# Altium footprint library ECE453_Power-v2.PcbLib: 13 footprints
Each footprint in its own frame and in the unit in brackets; x right, y up, seen from the top. Pads: shape width x height; smd on the part's side, far side on the other; paste and mask are expansions set on the pad; w line width, h text height; cw(c..) or ccw(c..) is an arc to the next point about the centre after c.
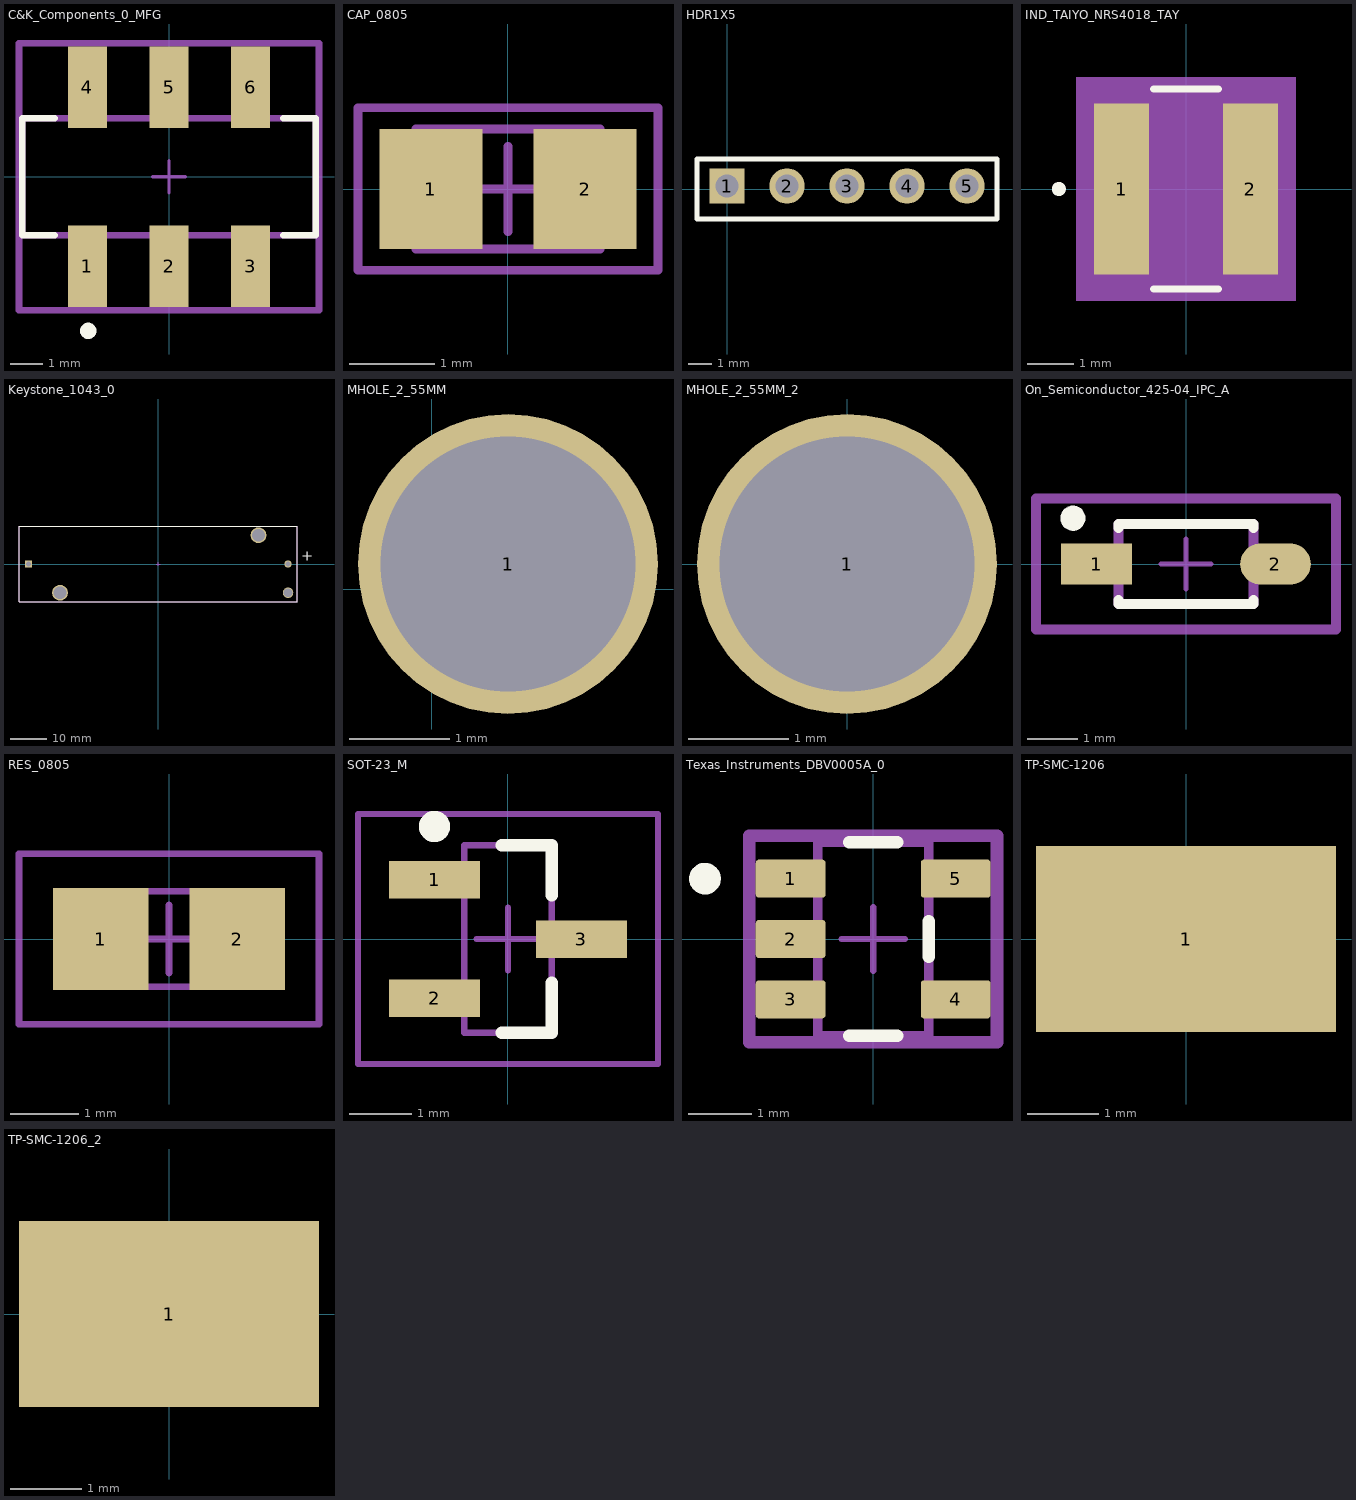
[diagram p0: the footprints below, top view; thin cyan lines are the x and y axes]

## C&K_Components_0_MFG [mm]
pads (6):
  rect 1.2x2.5 smd paste+0 mask+0: 1(-2.5,-2.75) 2(0,-2.75) 3(2.5,-2.75) 4(-2.5,2.75) 5(0,2.75) 6(2.5,2.75)
Top Overlay:
  circle w0.25: c-2.476,-4.725 r0.125
  lines w0.2: -3.5,-1.8 -4.5,-1.8 -4.5,1.8 -3.5,1.8 ; 3.5,-1.8 4.5,-1.8 4.5,1.8 3.5,1.8
Mechanical 10:
  lines w0.2: -4.6,-4.1 -4.6,4.1 4.6,4.1 4.6,-4.1 -4.6,-4.1
Mechanical 12:
  lines w0.2: -4.5,-1.8 -4.5,1.8 4.5,1.8 4.5,-1.8 -4.5,-1.8
Mechanical 15:
  lines w0.1: -0.5,0 0.5,0 ; 0,-0.5 0,0.5
  lines w0.2: -4.6,-4.1 -4.6,4.1 4.6,4.1 4.6,-4.1 -4.6,-4.1
3D body "JS202011SCQN--3DModel-STEP-56544.STEP": height 5.51, standoff 0, extent -4.496,-3.746 4.496,3.747

## CAP_0805 [mm]
pads (2):
  rect 1.2x1.4 smd: 1(-0.9,0) 2(0.9,0)
Mechanical 13:
  lines w0.1: -1.075,-0.7 1.075,-0.7 1.075,0.7 -1.075,0.7 -1.075,-0.7
Mechanical 15:
  lines w0.1: -0.5,0 0.5,0 ; 0,-0.5 0,0.5 ; -1.75,-0.95 1.75,-0.95 1.75,0.95 -1.75,0.95 -1.75,-0.95
3D body: height 0.7, standoff 0, extent -1.075,-0.7 1.075,0.7

## HDR1X5 [mm]
pads (5):
  rect 1.5x1.5 hole 0.991: 1(0,0.127)
  round 1.5 hole 0.991: 2(2.54,0.127) 3(5.08,0.127) 4(7.62,0.127) 5(10.16,0.127)
Top Overlay:
  lines w0.2: 10.16,-1.27 -1.27,-1.27 -1.27,1.27 10.16,1.27
  lines w0.203: 10.16,-1.27 11.43,-1.27 11.43,1.27 10.16,1.27
3D body "PREC005SAAN-RC.STEP": height 8.38, standoff -3.05, extent -1.27,-1.27 11.43,1.27

## IND_TAIYO_NRS4018_TAY [mil]
pads (2):
  rect 47x146 smd paste+0 mask+0: 1(-55,0) 2(55,0)
Top Overlay:
  circle w6: c-108.5,0 r3
  lines w6: -27.58,-85.5 27.58,-85.5 ; -27.58,85.5 27.58,85.5
Mechanical 5:
  region: 93.5,-95.5 -93.5,-95.5 -93.5,95.5 93.5,95.5
Mechanical 13:
  circle w0: c-77.5,0 r3
  lines w1: -80.5,-80.5 -80.5,80.5 80.5,80.5 80.5,-80.5 -80.5,-80.5
Mechanical 15:
  region: -90.5,-83 -90.5,83 -90.5,90.5 90.5,90.5 90.5,83 90.5,-83 90.5,-90.5 -90.5,-90.5
  lines w6: -90.5,-90.5 90.5,-90.5 90.5,-83 90.5,83 90.5,90.5 -90.5,90.5 -90.5,83 -90.5,-83 -90.5,-90.5
3D body: height 10, standoff 0, extent 0,0 10,10
3D body "IND_TAIYO_NRS4018_TAY.step": height 70.98, standoff 0, extent -80.51,-80.59 80.51,80.59

## Keystone_1043_0 [mil]
pads (5):
  rect 79.53x79.53 hole 52 paste-39370.1 mask+0: 1(-1422.5,0)
  round 79.53 hole 52 paste-39370.1 mask+0: 2(1422.5,0)
  round 175 hole 140 unplated paste-39370.1 mask+0: ""(-1076.5,-315) ""(1098.5,315)
  round 115 hole 94 unplated paste-39370.1 mask+0: ""(1422.5,-315)
Top Overlay:
  lines w7.87: -1522,-411.5 -1522,411.5 1522,411.5 1522,-411.5 -1522,-411.5
  text "+" at 1564.96,0 h196.85
Mechanical 10:
  lines w7.87: -1525.94,-415.44 -1525.94,415.44 1525.94,415.44 1525.94,-415.44 -1525.94,-415.44
  text ".Designator" at 0,0 h39.37
Mechanical 12:
  lines w5.91: -1522,-411.5 -1522,411.5 1522,411.5 1522,-411.5 -1522,-411.5
Mechanical 15:
  lines w3.94: -19.68,0 19.68,0 ; 0,-19.68 0,19.68
  lines w7.87: -1525.94,-415.44 -1525.94,415.44 1525.94,415.44 1525.94,-415.44 -1525.94,-415.44
3D body "Batt_Keystone_1043_eec.STEP": height 10, standoff 0, extent -1525.94,-415.44 1525.94,415.44

## MHOLE_2_55MM [mm]
pads (1):
  round 3 / inner round 4.572 / far side round 4.318 hole 2.55: 1(0.762,0.254)

## MHOLE_2_55MM_2 [mm]
pads (1):
  round 3 / inner round 4.572 / far side round 4.318 hole 2.55: 1(0,0)

## On_Semiconductor_425-04_IPC_A [mm]
pads (2):
  rect 1.408x0.822 smd paste+0 mask+0: 1(-1.78,0)
  rrect100% 1.408x0.822 smd paste+0 mask+0: 2(1.78,0)
Top Overlay:
  circle w0.25: c-2.249,0.911 r0.125
  lines w0.2: -1.345,-0.72 -1.345,-0.8 1.345,-0.8 1.345,-0.72 ; -1.345,0.72 -1.345,0.8 1.345,0.8 1.345,0.72
Mechanical 10:
  lines w0.2: -2.984,-1.3 -2.984,1.3 2.984,1.3 2.984,-1.3 -2.984,-1.3
Mechanical 12:
  lines w0.2: -1.345,-0.8 -1.345,0.8 1.345,0.8 1.345,-0.8 -1.345,-0.8
Mechanical 15:
  lines w0.1: -0.5,0 0.5,0 ; 0,-0.5 0,0.5
  lines w0.2: -2.984,-1.3 -2.984,1.3 2.984,1.3 2.984,-1.3 -2.984,-1.3
3D body "Diode_On_Semiconductor_MBR0540T1G_eec.STEP": height 0.25, standoff 0, extent -2.984,-1.3 2.984,1.3

## RES_0805 [mm]
pads (2):
  rect 1.4x1.5 smd: 1(-1,0) 2(1,0)
Mechanical 13:
  lines w0.1: -1.075,-0.7 -1.075,0.7 1.075,0.7 1.075,-0.7 -1.075,-0.7
Mechanical 15:
  lines w0.1: -0.5,0 0.5,0 ; 0,-0.5 0,0.5 ; -2.2,-1.25 -2.2,1.25 2.2,1.25 2.2,-1.25 -2.2,-1.25
3D body: height 0.7, standoff 0, extent -1.075,-0.7 1.075,0.7

## SOT-23_M [mm]
pads (3):
  rect 1.45x0.6 smd: 1(-1.175,0.95) 2(-1.175,-0.95) 3(1.175,0)
Top Overlay:
  circle w0.25: c-1.175,1.8 r0.125
  lines w0.2: -0.1,-1.5 0.7,-1.5 0.7,-0.7 ; -0.1,1.5 0.7,1.5 0.7,0.7
Mechanical 13:
  lines w0.1: -0.7,-1.5 -0.7,1.5 0.7,1.5 0.7,-1.5 -0.7,-1.5
Mechanical 15:
  lines w0.1: -0.5,0 0.5,0 ; 0,-0.5 0,0.5 ; -2.4,-2 -2.4,2 2.4,2 2.4,-2 -2.4,-2
3D body: height 1.1, standoff 0, extent -0.7,-1.5 0.7,1.5

## Texas_Instruments_DBV0005A_0 [mm]
pads (5):
  rrect17% 1.1x0.6 smd paste+0 mask+0: 1(-1.3,0.95) 2(-1.3,0) 3(-1.3,-0.95) 4(1.3,-0.95) 5(1.3,0.95)
Top Overlay:
  circle w0.25: c-2.65,0.95 r0.125
  lines w0.2: -0.375,-1.525 0.375,-1.525 ; -0.375,1.525 0.375,1.525 ; 0.875,-0.275 0.875,0.275
Mechanical 10:
  lines w0.2: -1.95,-1.625 -1.95,1.625 1.95,1.625 1.95,-1.625 -1.95,-1.625
Mechanical 12:
  lines w0.15: -0.875,-1.525 -0.875,1.525 0.875,1.525 0.875,-1.525 -0.875,-1.525
Mechanical 15:
  lines w0.1: -0.5,0 0.5,0 ; 0,-0.5 0,0.5
  lines w0.2: -1.95,-1.625 -1.95,1.625 1.95,1.625 1.95,-1.625 -1.95,-1.625
3D body "IC_Texas_Instruments_LM2735XMF-NOPB_eec.STEP": height 0.25, standoff 0, extent -1.95,-1.625 1.95,1.625

## TP-SMC-1206 [mm]
pads (1):
  rect 4.2x2.6 smd mask+0: 1(0,0)
3D body "c-1625854-1-ba-3d.stp": height 1.22, standoff -0.03, extent -1.575,-0.787 1.625,0.813

## TP-SMC-1206_2 [mm]
pads (1):
  rect 4.2x2.6 smd mask+0: 1(0,0)
3D body "c-1625854-1-ba-3d.stp": height 1.22, standoff -0.03, extent -1.575,-0.787 1.625,0.813